# Altium footprint library PcbLib.PcbLib: 67 footprints (part 2 of 5)
Each footprint in its own frame and in the unit in brackets; x right, y up, seen from the top. Pads: shape width x height; smd on the part's side, far side on the other; paste and mask are expansions set on the pad; w line width, h text height; cw(c..) or ccw(c..) is an arc to the next point about the centre after c.
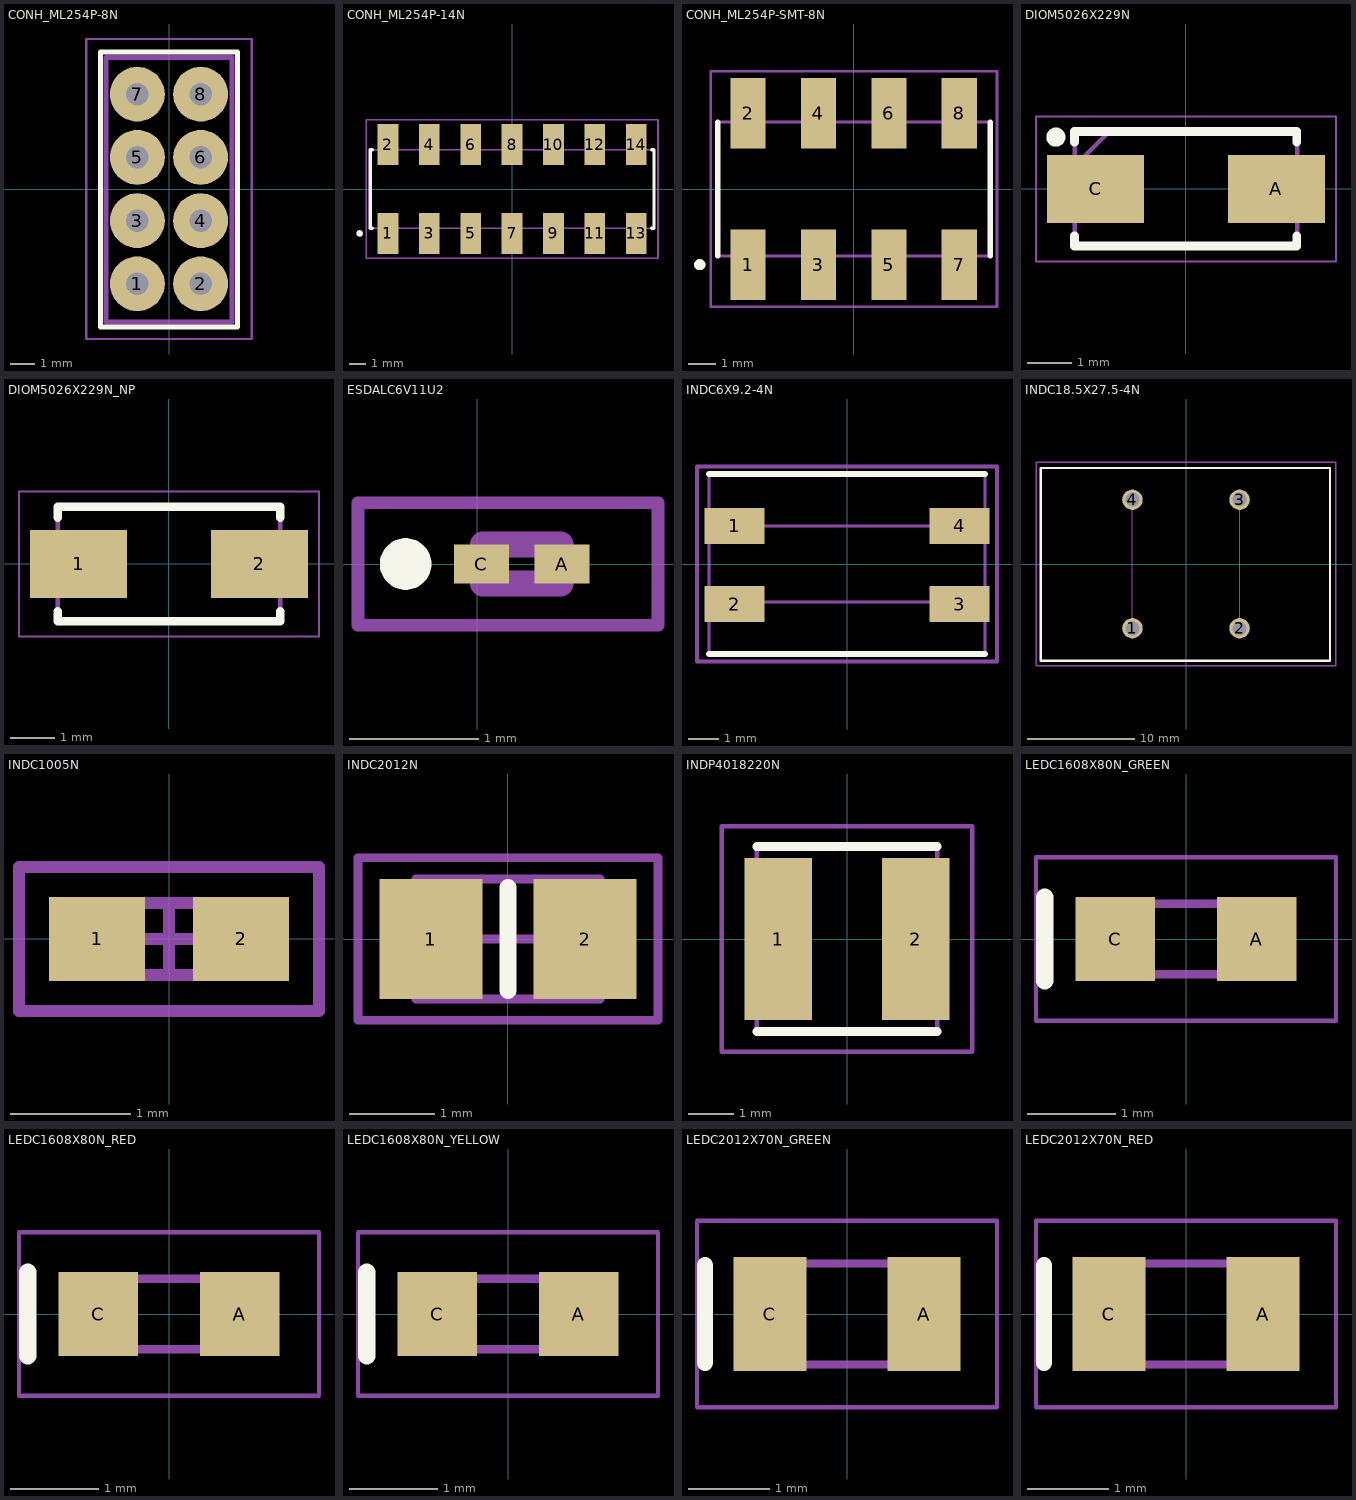
[diagram p1: the footprints below, top view; thin cyan lines are the x and y axes]

## CONH_ML254P-8N [mm]
pads (8):
  round 2.2 hole 0.9 mask+0.254: 1(-1.27,-3.81) 2(1.27,-3.81) 3(-1.27,-1.27) 4(1.27,-1.27) 5(-1.27,1.27) 6(1.27,1.27) 7(-1.27,3.81) 8(1.27,3.81)
Top Overlay:
  lines w0.2: -2.75,-5.55 2.75,-5.55 2.75,5.5 -2.75,5.5 -2.75,-5.55
Mechanical 13:
  lines w0.2: -2.54,-5.35 -2.54,5.275 2.54,5.275 2.54,-5.35 -2.54,-5.35
Mechanical 15:
  lines w0.1: -3.325,-6.025 3.325,-6.025 3.325,6.025 -3.325,6.025 -3.325,-6.025
3D body "2x4 female header.stp": height 8.5, standoff -3, extent -2.5,-5.33 2.5,5.33

## CONH_ML254P-14N [mm]
pads (14):
  rect 1.27x2.54 smd: 1(-7.62,-2.73) 2(-7.62,2.73) 3(-5.08,-2.73) 4(-5.08,2.73) 5(-2.54,-2.73) 6(-2.54,2.73) 7(0,-2.73) 8(0,2.73) 9(2.54,-2.73) 10(2.54,2.73) 11(5.08,-2.73) 12(5.08,2.73) 13(7.62,-2.73) 14(7.62,2.73)
Top Overlay:
  circle w0.2: c-9.36,-2.73 r0.1
  lines w0.2: -8.575,-2.415 -8.71,-2.415 -8.71,2.415 -8.575,2.415 ; 8.575,-2.415 8.71,-2.415 8.71,2.415 8.575,2.415
Mechanical 13:
  circle w0.2: c-9.36,-2.73 r0.1
  lines w0.1: -8.71,-2.415 8.71,-2.415 8.71,2.415 -8.71,2.415 -8.71,-2.415
Mechanical 15:
  lines w0.1: -8.96,-4.25 -8.96,4.25 8.96,4.25 8.96,-4.25 -8.96,-4.25
3D body "step_temp.STEP": height 9.7, standoff 0, extent -8.89,-3.65 8.89,3.65

## CONH_ML254P-SMT-8N [mm]
pads (8):
  rect 1.27x2.54 smd: 1(-3.81,-2.73) 2(-3.81,2.73) 3(-1.27,-2.73) 4(-1.27,2.73) 5(1.27,-2.73) 6(1.27,2.73) 7(3.81,-2.73) 8(3.81,2.73)
Top Overlay:
  circle w0.2: c-5.55,-2.73 r0.1
  lines w0.2: -4.9,-2.415 -4.9,2.415 ; 4.92,-2.415 4.92,2.415
Mechanical 13:
  circle w0.2: c-5.55,-2.73 r0.1
  lines w0.1: -4.9,-2.415 4.92,-2.415 4.92,2.415 -4.9,2.415 -4.9,-2.415
Mechanical 15:
  lines w0.1: -5.15,-4.25 -5.15,4.25 5.17,4.25 5.17,-4.25 -5.15,-4.25
3D body "step_temp.STEP": height 9.7, standoff 0, extent -5.04,-3.65 0.04,3.65
3D body "step_temp.STEP": height 9.7, standoff 0, extent -0.023,-3.65 5.057,3.65

## DIOM5026X229N [mm] "SMA (DO-214AC) Bi-Directional"
height 2.3
pads (2):
  rect 2.2x1.55 smd: A(2.05,0) C(-2.05,0)
Top Overlay:
  circle w0.254: c-2.95,1.175 r0.09
  lines w0.2: -2.528,-1.068 -2.528,-1.291 2.512,-1.291 2.512,-1.068 ; -2.528,1.062 -2.528,1.305 2.512,1.305 2.512,1.062
Mechanical 13:
  lines w0.1: -2.52,0.522 -1.745,1.298 ; -2.52,-1.298 2.52,-1.298 2.52,1.298 -2.52,1.298 -2.52,-1.298
Mechanical 15:
  lines w0.05: -3.4,-1.645 3.4,-1.645 3.4,1.645 -3.4,1.645 -3.4,-1.645
3D body "SMAJ36A.stp": height 2.29, standoff 0, extent -2.52,-1.298 2.52,1.298

## DIOM5026X229N_NP [mm] "SMA (DO-214AC) Bi-Directional"
height 2.3
pads (2):
  rect 2.2x1.55 smd: 1(-2.05,0) 2(2.05,0)
Top Overlay:
  lines w0.2: -2.52,-1.075 -2.52,-1.298 2.52,-1.298 2.52,-1.075 ; -2.52,1.055 -2.52,1.298 2.52,1.298 2.52,1.055
Mechanical 13:
  lines w0.1: -2.52,-1.298 2.52,-1.298 2.52,1.298 -2.52,1.298 -2.52,-1.298
Mechanical 15:
  lines w0.05: -3.4,-1.645 3.4,-1.645 3.4,1.645 -3.4,1.645 -3.4,-1.645
3D body "SMAJ26CA.stp": height 2.29, standoff 0, extent -2.52,-1.298 2.52,1.298

## ESDALC6V11U2 [mm]
pads (2):
  rect 0.425x0.3 smd: A(0.656,0) C(0.031,0)
Top Overlay:
  lines w0.2: -0.556,-0.1 cw(c-0.556,0) -0.556,0.1 cw(c-0.556,0) -0.556,-0.1
Mechanical 13:
  lines w0.2: 0.044,-0.15 0.644,-0.15 0.644,0.15 0.044,0.15 0.044,-0.15
Mechanical 15:
  lines w0.1: -0.925,-0.475 1.4,-0.475 1.4,0.475 -0.925,0.475 -0.925,-0.475
3D body "ESDALC6V1-1U2.stp": height 0.34, standoff 0, extent 0.015,-0.175 0.665,0.175

## INDC6X9.2-4N [mm] "Common Mode Chokes Width 6mm, Length 9.2mm, Height 5mm"
height 5
pads (4):
  rect 2x1.2 smd: 1(-3.75,1.27) 2(-3.75,-1.34) 3(3.75,-1.34) 4(3.75,1.27)
Top Overlay:
  lines w0.2: -4.6,-3 4.6,-3 ; -4.6,3 4.6,3
Mechanical 13:
  lines w0.1: -4.6,-3 -4.6,3 ; -3.81,-1.27 3.81,-1.27 ; -3.81,1.27 3.81,1.27 ; 4.6,-3 4.6,3
Mechanical 15:
  lines w0.127: -5,-3.25 5,-3.25 5,3.25 -5,3.25 -5,-3.25
3D body "744226S.stp": height 5, standoff 0, extent -4.6,-3 4.6,3

## INDC18.5X27.5-4N [mm] "Common Mode Chokes Width 18.5mm, Length 27.5mm, Height 33mm"
height 33
pads (4):
  round 1.905 hole 1.3: 1(-5,-6) 2(5,-6) 3(5,6) 4(-5,6)
Top Overlay:
  lines w0.2: -13.561,-9.036 13.439,-9.036 13.439,8.963 -13.561,8.963 -13.561,-9.036
Mechanical 13:
  lines w0.1: -5,-5.286 -5,5.213 ; 5,-5.282 5,5.219
Mechanical 15:
  lines w0.127: -14,-9.5 14,-9.5 14,9.5 -14,9.5 -14,-9.5
3D body "744824310.stp": height 28.62, standoff -4.98, extent -12.213,-8.5 12.213,8.5

## INDC1005N [mm]
pads (2):
  rect 0.8x0.7 smd: 1(-0.6,0) 2(0.6,0)
Mechanical 13:
  lines w0.1: -0.55,-0.3 -0.55,0.3 0.55,0.3 0.55,-0.3 -0.55,-0.3
Mechanical 15:
  lines w0.1: -0.3,0 0.3,0 ; 0,-0.3 0,0.3 ; -1.25,-0.6 -1.25,0.6 1.25,0.6 1.25,-0.6 -1.25,-0.6
3D body "BLM15AX601SN1D.stp": height 0.5, standoff 0, extent -0.5,-0.25 0.5,0.25

## INDC2012N [mm] "Chip Inductor, Body 2.0x1.3mm, IPC Medium Density"
height 0.65
pads (2):
  rect 1.2x1.4 smd: 1(-0.9,0) 2(0.9,0)
Top Overlay:
  lines w0.2: 0,-0.6 0,0.6
Mechanical 13:
  lines w0.1: -1.075,-0.7 1.075,-0.7 1.075,0.7 -1.075,0.7 -1.075,-0.7
Mechanical 15:
  lines w0.1: -0.5,0 0.5,0 ; 0,-0.5 0,0.5 ; -1.75,-0.95 1.75,-0.95 1.75,0.95 -1.75,0.95 -1.75,-0.95
3D body "ferrite_bead_0805.STEP": height 0.9, standoff 0, extent -1,-0.6 1,0.6

## INDP4018220N [mm]
pads (2):
  rect 1.5x3.6 smd: 1(-1.525,0) 2(1.525,0)
Top Overlay:
  lines w0.2: -2,-2.05 2,-2.05 ; -2,2.05 2,2.05
Mechanical 13:
  lines w0.1: -2,-2 -2,2 2,2 2,-2 -2,-2
Mechanical 15:
  lines w0.1: -2.775,-2.5 -2.775,2.5 2.775,2.5 2.775,-2.5 -2.775,-2.5
3D body "SRN4018-101M.stp": height 1.65, standoff 0, extent -2,-2 2,2

## LEDC1608X80N_GREEN [mm]
pads (2):
  rect 0.9x0.95 smd: A(0.8,0) C(-0.8,0)
Top Overlay:
  lines w0.2: -1.6,-0.475 -1.6,0.475
Mechanical 13:
  lines w0.1: -0.8,0.133 -0.533,0.4 ; -0.8,-0.4 -0.8,0.4 0.8,0.4 0.8,-0.4 -0.8,-0.4
Mechanical 15:
  lines w0.05: -1.7,-0.925 -1.7,0.925 1.7,0.925 1.7,-0.925 -1.7,-0.925
3D body "LED_0603_GREEN.step": height 0.55, standoff 0, extent -0.8,-0.4 0.8,0.4

## LEDC1608X80N_RED [mm]
pads (2):
  rect 0.9x0.95 smd: A(0.8,0) C(-0.8,0)
Top Overlay:
  lines w0.2: -1.6,-0.475 -1.6,0.475
Mechanical 13:
  lines w0.1: -0.8,0.133 -0.533,0.4 ; -0.8,-0.4 -0.8,0.4 0.8,0.4 0.8,-0.4 -0.8,-0.4
Mechanical 15:
  lines w0.05: -1.7,-0.925 -1.7,0.925 1.7,0.925 1.7,-0.925 -1.7,-0.925
3D body "LED_0603_RED.step": height 0.55, standoff 0, extent -0.8,-0.4 0.8,0.4

## LEDC1608X80N_YELLOW [mm]
pads (2):
  rect 0.9x0.95 smd: A(0.8,0) C(-0.8,0)
Top Overlay:
  lines w0.2: -1.6,-0.475 -1.6,0.475
Mechanical 13:
  lines w0.1: -0.8,0.133 -0.533,0.4 ; -0.8,-0.4 -0.8,0.4 0.8,0.4 0.8,-0.4 -0.8,-0.4
Mechanical 15:
  lines w0.05: -1.7,-0.925 -1.7,0.925 1.7,0.925 1.7,-0.925 -1.7,-0.925
3D body "LED_0603_YELLOW.step": height 0.55, standoff 0, extent -0.8,-0.4 0.8,0.4

## LEDC2012X70N_GREEN [mm]
pads (2):
  rect 0.9x1.4 smd: A(0.95,0) C(-0.95,0)
Top Overlay:
  lines w0.2: -1.75,-0.6 -1.75,0.6
Mechanical 13:
  lines w0.1: -1,0.208 -0.583,0.625 ; -1,-0.625 1,-0.625 1,0.625 -1,0.625 -1,-0.625
Mechanical 15:
  lines w0.05: -1.85,-1.15 1.85,-1.15 1.85,1.15 -1.85,1.15 -1.85,-1.15
3D body "LED-0805-Green.step": height 0.8, standoff -0.01, extent -1.01,-0.625 1.01,0.625

## LEDC2012X70N_RED [mm]
pads (2):
  rect 0.9x1.4 smd: A(0.95,0) C(-0.95,0)
Top Overlay:
  lines w0.2: -1.75,-0.6 -1.75,0.6
Mechanical 13:
  lines w0.1: -1,0.208 -0.583,0.625 ; -1,-0.625 1,-0.625 1,0.625 -1,0.625 -1,-0.625
Mechanical 15:
  lines w0.05: -1.85,-1.15 1.85,-1.15 1.85,1.15 -1.85,1.15 -1.85,-1.15
3D body "LED-0805-Red.step": height 0.8, standoff -0.01, extent -1.01,-0.625 1.01,0.625